# EAGLE library part SI1016X (library isystems)
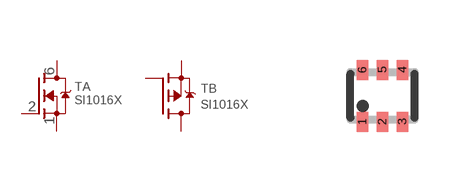
[diagram p17: symbol with the pads of SOT563; footprint SOT563]

Designator prefix T; gates A=MOSFET_N B=MOSFET_P

## SI1016X  [SOT563]
1  A:S
2  A:G
3  B:D  pas
4  B:S  pas
5  B:G  pas
6  A:D

## Footprint SOT563 (pad centres in mm)
Small Outline Transistor; 6 leads Reflow soldering
smd 0.3 x 0.5: 1 -0.5,-0.65; 2 0,-0.65; 3 0.5,-0.65; 4 0.5,0.65; 5 0,0.65; 6 -0.5,0.65